# Altium footprint library Drossel.PcbLib: 1 footprints
Each footprint in its own frame and in the unit in brackets; x right, y up, seen from the top. Pads: shape width x height; smd on the part's side, far side on the other; paste and mask are expansions set on the pad; w line width, h text height; cw(c..) or ccw(c..) is an arc to the next point about the centre after c.
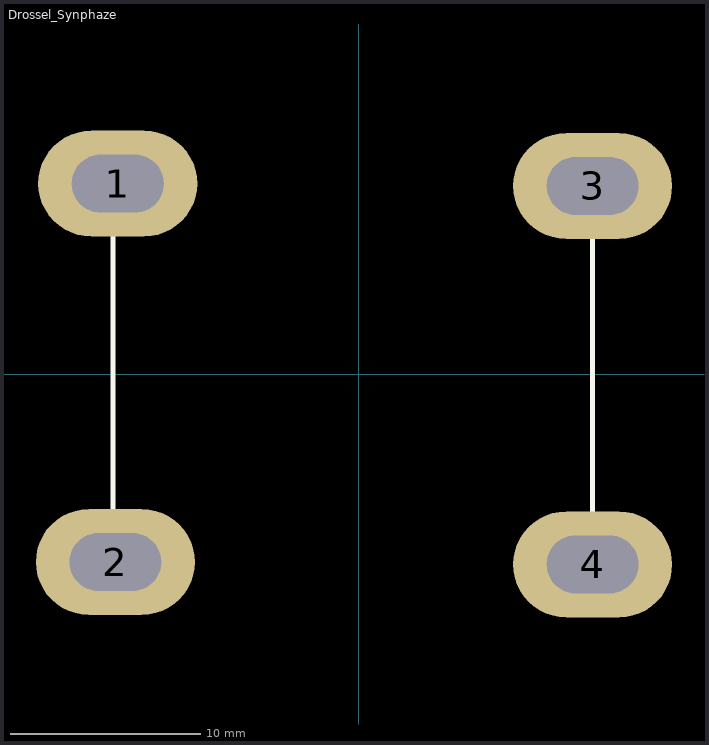
[diagram p0: the footprint, top view; thin cyan lines are the x and y axes]

## Drossel_Synphaze [mil]
pads (4):
  oval 330x220 hole 120 slot 190 at 0 deg: 1(-500,395) 2(-505,-390) 3(485,390) 4(485,-395)
Top Overlay:
  lines w10: -510,-385 -510,395 ; 485,-395 485,390
3D body "Дроссель фильтра.STEP": height 1982.59, standoff -141.73, extent -991.85,-551.18 970,551.18